# EAGLE library part 61729-0021BLF (library SamacSys_Parts)
USB Connectors USB RECPT B TYPE Source: Datasheet <https://cdn.amphenol-icc.com/media/wysiwyg/files/drawing/61729.pdf>
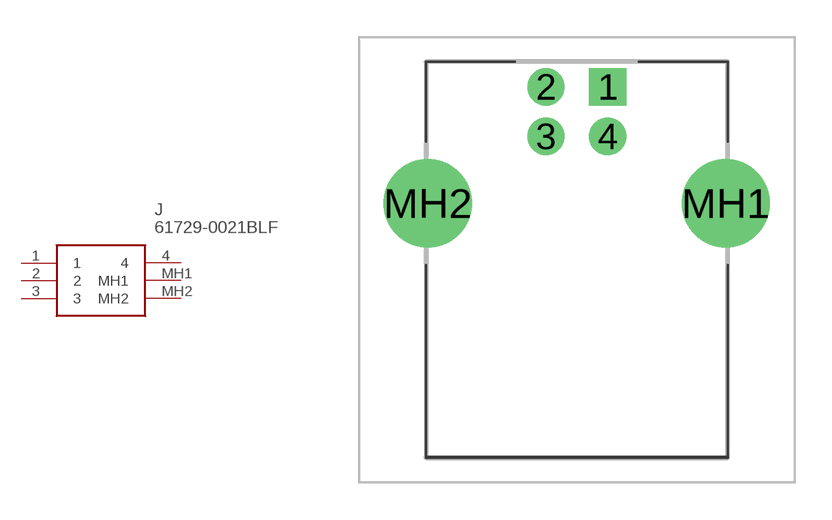
[diagram p1: symbol with the pads of 617290021BLF; footprint 617290021BLF]

Designator prefix J

## 61729-0021BLF (Description: USB Connectors USB RECPT B TYPE; Height: 11.5mm; Manufacturer_Name: Amphenol; Manufacturer_Part_Number: 61729-0021BLF; Mouser_Part_Number: 649-61729-0021BLF; Mouser_Price-Stock: https://www.mouser.co.uk/ProductDetail/Amphenol-FCI/61729-0021BLF?qs=zxzm42eeoPNlv99mpIa3VA%3D%3D)  [617290021BLF]
1  1
2  2
3  3
4  4
MH1  MH1
MH2  MH2

## Footprint 617290021BLF (pad centres in mm)
61729-0021BLF-1
drill 1 pad 1.5 square: 1 0,0
drill 1 pad 1.5: 2 -2.5,0; 3 -2.5,-2; 4 0,-2
drill 2.38 pad 3.57: MH1 4.77,-4.71; MH2 -7.27,-4.71